# Altium footprint library Pcblibv2.PcbLib: 96 footprints (part 6 of 6)
Each footprint in its own frame and in the unit in brackets; x right, y up, seen from the top. Pads: shape width x height; smd on the part's side, far side on the other; paste and mask are expansions set on the pad; w line width, h text height; cw(c..) or ccw(c..) is an arc to the next point about the centre after c.
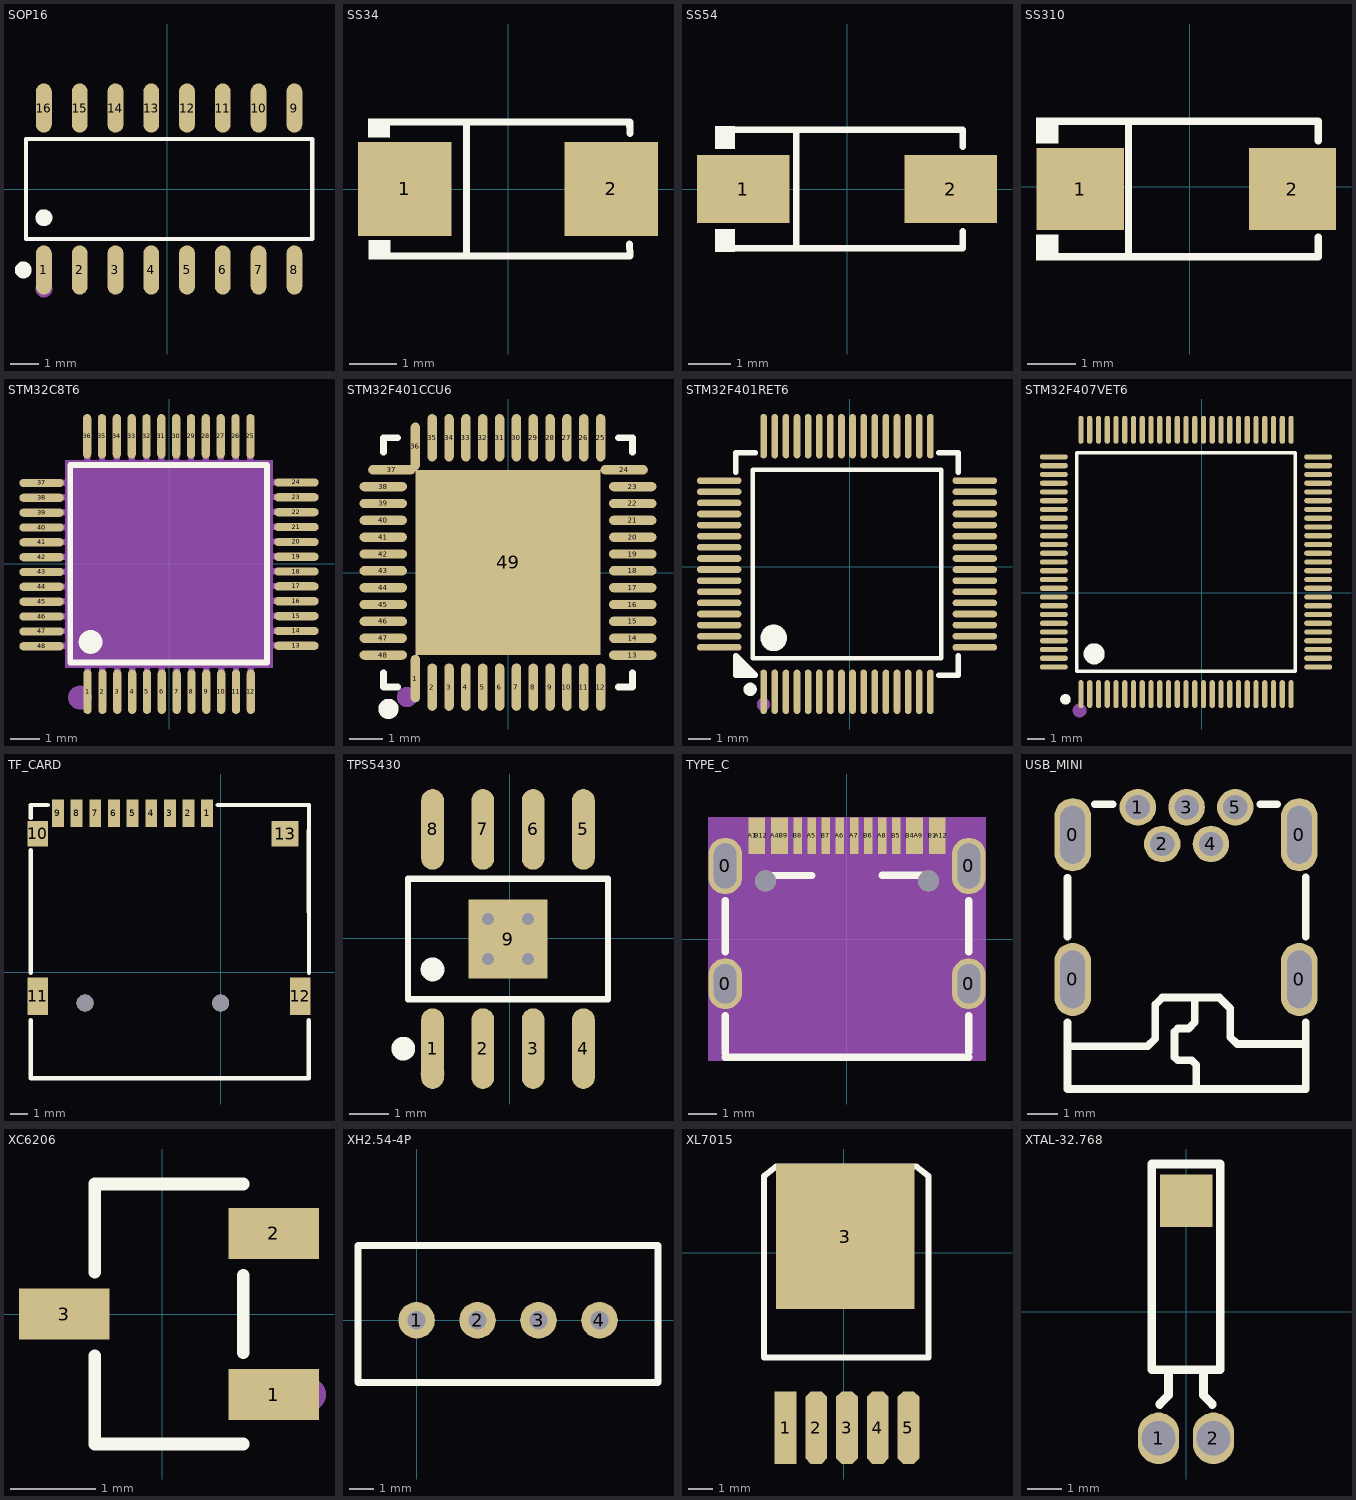
[diagram p5: the footprints below, top view; thin cyan lines are the x and y axes]

## SOP16 [mm]
pads (16):
  oval 0.56x1.745 smd: 1(-4.382,-2.873) 2(-3.112,-2.873) 3(-1.842,-2.873) 4(-0.572,-2.873) 5(0.698,-2.873) 6(1.968,-2.873) 7(3.238,-2.873) 8(4.508,-2.873) 9(4.508,2.873) 10(3.238,2.873) 11(1.968,2.873) 12(0.698,2.873) 13(-0.572,2.873) 14(-1.842,2.873) 15(-3.112,2.873) 16(-4.382,2.873)
Top Overlay:
  circle w0.3: c-5.115,-2.872 r0.15
  circle w0.3: c-4.382,-1.019 r0.15
  lines w0.152: -5.013,-1.771 5.139,-1.771 5.139,1.771 -5.013,1.771 -5.013,-1.771
Mechanical 15:
  circle w0.3: c-4.382,-3.55 r0.15

## SS34 [mm]
pads (2):
  rect 2x2 smd: 1(-2.2,0) 2(2.2,0)
Top Overlay:
  region: -2.512,-1.096 -2.513,-1.502 -2.973,-1.498 -2.969,-1.096
  region: -2.52,1.502 -2.521,1.096 -2.981,1.1 -2.977,1.502
  lines w0.152: -2.596,-1.426 2.596,-1.426 ; -2.596,1.426 2.596,1.426 2.603,1.187 ; -0.884,-1.426 -0.884,1.426 ; 2.593,-1.176 2.6,-1.415
Mechanical 15:
  region: 2.014,-0.675 2.014,0.675 1.811,0.675 1.811,-0.675
  region: 2.29,-0.09 2.29,0.113 1.48,0.113 1.48,-0.09
  region: -2.317,-0.101 -2.317,0.101 -1.507,0.101 -1.507,-0.101

## SS54 [mm]
pads (2):
  rect 2.185x1.593 smd: 1(-2.442,0) 2(2.442,0)
Top Overlay:
  region: -2.65,1.477 -2.65,0.949 -3.107,0.949 -3.107,1.477
  region: -2.65,-1.477 -2.65,-0.949 -3.107,-0.949 -3.107,-1.477
  lines w0.152: -2.726,-1.401 2.726,-1.401 2.726,-1 ; -2.726,1.401 2.726,1.401 2.726,1 ; -1.197,-1.401 -1.197,1.401
Mechanical 15:
  region: -2.451,-0.099 -2.451,0.099 -1.656,0.099 -1.656,-0.099
  region: 2.451,-0.099 2.451,0.099 1.656,0.099 1.656,-0.099
  region: 2.153,-0.663 2.153,0.663 1.954,0.663 1.954,-0.663

## SS310 [mm]
pads (2):
  rect 1.8x1.7 smd paste+0 mask+0.051: 1(-2.26,-0.047) 2(2.125,-0.047)
Top Overlay:
  region: -2.718,1.431 -2.718,0.902 -3.175,0.902 -3.175,1.431
  region: -2.718,-1.524 -2.718,-0.995 -3.175,-0.995 -3.175,-1.524
  lines w0.152: -2.794,-1.448 2.658,-1.448 2.658,-1.046 ; -2.794,1.355 2.658,1.355 2.658,0.953 ; -1.265,-1.448 -1.265,1.355
Mechanical 15:
  region: -2.519,-0.146 -2.519,0.053 -1.724,0.053 -1.724,-0.146
  region: 2.383,-0.146 2.383,0.053 1.588,0.053 1.588,-0.146
  region: 2.085,-0.709 2.085,0.616 1.887,0.616 1.887,-0.709

## STM32C8T6 [mil]
pads (48):
  oval 11.02x58.89 smd: 1(-108,-169.5) 2(-88.3,-169.5) 3(-68.6,-169.5) 4(-48.9,-169.5) 5(-29.2,-169.5) 6(-9.5,-169.5) 7(10.1,-169.5) 8(29.8,-169.5) 9(49.5,-169.5) 10(69.2,-169.5) 11(88.9,-169.5) 12(108.6,-169.5) 25(108,169.5) 26(88.3,169.5) 27(68.6,169.5) 28(48.9,169.5) 29(29.2,169.5) 30(9.5,169.5) 31(-10.1,169.5) 32(-29.8,169.5) 33(-49.5,169.5) 34(-69.2,169.5) 35(-88.9,169.5) 36(-108.6,169.5)
  oval 58.89x11.02 smd: 13(169,-108.5) 14(169,-88.8) 15(169,-69.1) 16(169,-49.4) 17(169,-29.7) 18(169,-10) 19(169,9.6) 20(169,29.3) 21(169,49) 22(169,68.7) 23(169,88.4) 24(169,108.1) 37(-169,107.5) 38(-169,87.8) 39(-169,68.1) 40(-169,48.4) 41(-169,28.7) 42(-169,9) 43(-169,-10.6) 44(-169,-30.3) 45(-169,-50) 46(-169,-69.7) 47(-169,-89.4) 48(-169,-109.1)
Top Overlay:
  lines w7.87: -114,131.5 130,131.5 130,-130.5 -131,-130.5 -131,131.5 -101,131.5
  lines w15.75: -104,-95.5 ccw(c-103.95,-103.37) -103.9,-95.5
Mechanical 4:
  region: -137.79,137.79 137.79,137.79 137.79,-137.8 -137.79,-137.8
Mechanical 5:
  drawing of 96 lines, arcs and shapes, not listed
Mechanical 15:
  circle w15.75: c-118.11,-177.17 r7.87
3D body "STM32F103C8T6--3DModel-STEP-56544.STEP": height 78.25, standoff 15.26, extent -173.16,-175.16 181.16,179.16

## STM32F401CCU6 [mm]
pads (49):
  oval 0.28x1.408 smd: 1(-2.751,-3.148) 2(-2.25,-3.402) 3(-1.75,-3.402) 4(-1.25,-3.402) 5(-0.749,-3.402) 6(-0.249,-3.402) 7(0.249,-3.402) 8(0.749,-3.402) 9(1.25,-3.402) 10(1.75,-3.402) 11(2.25,-3.402) 12(2.751,-3.402) 25(2.751,4.004) 26(2.25,4.004) 27(1.75,4.004) 28(1.25,4.004) 29(0.749,4.004) 30(0.249,4.004) 31(-0.249,4.004) 32(-0.749,4.004) 33(-1.25,4.004) 34(-1.75,4.004) 35(-2.25,4.004) 36(-2.751,3.75)
  oval 1.408x0.28 smd: 13(3.703,-2.45) 14(3.703,-1.949) 15(3.703,-1.449) 16(3.703,-0.949) 17(3.703,-0.448) 18(3.703,0.052) 19(3.703,0.55) 20(3.703,1.05) 21(3.703,1.551) 22(3.703,2.051) 23(3.703,2.551) 24(3.449,3.052) 37(-3.449,3.052) 38(-3.703,2.551) 39(-3.703,2.051) 40(-3.703,1.551) 41(-3.703,1.05) 42(-3.703,0.55) 43(-3.703,0.052) 44(-3.703,-0.448) 45(-3.703,-0.949) 46(-3.703,-1.449) 47(-3.703,-1.949) 48(-3.703,-2.45)
  rect 5.5x5.5 smd: 49(0,0.301)
Top Overlay:
  lines w0.2: -3.7,-2.974 -3.7,-3.399 -3.275,-3.399 ; -3.7,3.576 -3.7,4.001 -3.275,4.001 ; 3.275,-3.399 3.7,-3.399 3.7,-2.974 ; 3.275,4.001 3.7,4.001 3.7,3.576
  lines w0.3: -3.551,-3.9 ccw(c-3.55,-4.05) -3.549,-3.9
Mechanical 15:
  circle w0.3: c-3,-3.699 r0.15

## STM32F401RET6 [mm]
pads (64):
  oval 0.3x2 smd: 1(-3.877,-5.623) 2(-3.377,-5.623) 3(-2.877,-5.623) 4(-2.377,-5.623) 5(-1.877,-5.623) 6(-1.377,-5.623) 7(-0.877,-5.623) 8(-0.377,-5.623) 9(0.123,-5.623) 10(0.623,-5.623) 11(1.123,-5.623) 12(1.623,-5.623) 13(2.123,-5.623) 14(2.623,-5.623) 15(3.123,-5.623) 16(3.623,-5.623) 33(3.623,5.877) 34(3.123,5.877) 35(2.623,5.877) 36(2.123,5.877) 37(1.623,5.877) 38(1.123,5.877) 39(0.623,5.877) 40(0.123,5.877) 41(-0.377,5.877) 42(-0.877,5.877) 43(-1.377,5.877) 44(-1.877,5.877) 45(-2.377,5.877) 46(-2.877,5.877) 47(-3.377,5.877) 48(-3.877,5.877)
  oval 2x0.3 smd: 17(5.623,-3.623) 18(5.623,-3.123) 19(5.623,-2.623) 20(5.623,-2.123) 21(5.623,-1.623) 22(5.623,-1.123) 23(5.623,-0.623) 24(5.623,-0.123) 25(5.623,0.377) 26(5.623,0.877) 27(5.623,1.377) 28(5.623,1.877) 29(5.623,2.377) 30(5.623,2.877) 31(5.623,3.377) 32(5.623,3.877) 49(-5.877,3.877) 50(-5.877,3.377) 51(-5.877,2.877) 52(-5.877,2.377) 53(-5.877,1.877) 54(-5.877,1.377) 55(-5.877,0.877) 56(-5.877,0.377) 57(-5.877,-0.123) 58(-5.877,-0.623) 59(-5.877,-1.123) 60(-5.877,-1.623) 61(-5.877,-2.123) 62(-5.877,-2.623) 63(-5.877,-3.123) 64(-5.877,-3.623)
Top Overlay:
  region: -4.258,-4.873 -5.127,-4.004 -5.127,-4.873
  lines w0.2: -4.377,-4.123 4.123,-4.123 4.123,4.377 -4.377,4.377 -4.377,-4.123
  lines w0.254: -5.127,4.258 -5.127,5.127 -4.258,5.127 ; 4.004,-4.873 4.873,-4.873 4.873,-4.004 ; 4.004,5.127 4.873,5.127 4.873,4.258 ; -5.127,-4.004 -5.127,-4.873 -4.258,-4.873 -5.127,-4.004 ; -5.127,-4.004 -5.127,-4.004
  lines w0.3: -4.488,-5.363 ccw(c-4.487,-5.513) -4.486,-5.363
  lines w0.6: -3.426,-2.898 ccw(c-3.424,-3.198) -3.421,-2.898
Mechanical 15:
  circle w0.3: c-3.887,-6.193 r0.15

## STM32F407VET6 [mm]
pads (100):
  oval 0.3x1.6 smd: 1(-6.889,-5.782) 2(-6.389,-5.782) 3(-5.889,-5.782) 4(-5.389,-5.782) 5(-4.889,-5.782) 6(-4.389,-5.782) 7(-3.889,-5.782) 8(-3.389,-5.782) 9(-2.889,-5.782) 10(-2.389,-5.782) 11(-1.889,-5.782) 12(-1.389,-5.782) 13(-0.889,-5.782) 14(-0.389,-5.782) 15(0.111,-5.782) 16(0.611,-5.782) 17(1.111,-5.782) 18(1.611,-5.782) 19(2.111,-5.782) 20(2.611,-5.782) 21(3.111,-5.782) 22(3.611,-5.782) 23(4.111,-5.782) 24(4.611,-5.782) 25(5.111,-5.782) 51(5.111,9.318) 52(4.611,9.318) 53(4.111,9.318) 54(3.611,9.318) 55(3.111,9.318) 56(2.611,9.318) 57(2.111,9.318) 58(1.611,9.318) 59(1.111,9.318) 60(0.611,9.318) 61(0.111,9.318) 62(-0.389,9.318) 63(-0.889,9.318) 64(-1.389,9.318) 65(-1.889,9.318) 66(-2.389,9.318) 67(-2.889,9.318) 68(-3.389,9.318) 69(-3.889,9.318) 70(-4.389,9.318) 71(-4.889,9.318) 72(-5.389,9.318) 73(-5.889,9.318) 74(-6.389,9.318) 75(-6.889,9.318)
  oval 1.6x0.3 smd: 26(6.661,-4.232) 27(6.661,-3.732) 28(6.661,-3.232) 29(6.661,-2.732) 30(6.661,-2.232) 31(6.661,-1.732) 32(6.661,-1.232) 33(6.661,-0.732) 34(6.661,-0.232) 35(6.661,0.268) 36(6.661,0.768) 37(6.661,1.268) 38(6.661,1.768) 39(6.661,2.268) 40(6.661,2.768) 41(6.661,3.268) 42(6.661,3.768) 43(6.661,4.268) 44(6.661,4.768) 45(6.661,5.268) 46(6.661,5.768) 47(6.661,6.268) 48(6.661,6.768) 49(6.661,7.268) 50(6.661,7.768) 76(-8.439,7.768) 77(-8.439,7.268) 78(-8.439,6.768) 79(-8.439,6.268) 80(-8.439,5.768) 81(-8.439,5.268) 82(-8.439,4.768) 83(-8.439,4.268) 84(-8.439,3.768) 85(-8.439,3.268) 86(-8.439,2.768) 87(-8.439,2.268) 88(-8.439,1.768) 89(-8.439,1.268) 90(-8.439,0.768) 91(-8.439,0.268) 92(-8.439,-0.232) 93(-8.439,-0.732) 94(-8.439,-1.232) 95(-8.439,-1.732) 96(-8.439,-2.232) 97(-8.439,-2.732) 98(-8.439,-3.232) 99(-8.439,-3.732) 100(-8.439,-4.232)
Top Overlay:
  lines w0.2: -7.139,-4.482 5.361,-4.482 5.361,8.018 -7.139,8.018 -7.139,-4.482
  lines w0.3: -7.772,-5.928 ccw(c-7.771,-6.078) -7.77,-5.928
  lines w0.6: -6.139,-3.183 ccw(c-6.137,-3.483) -6.134,-3.183
Top Paste:
  drawing of 100 lines, arcs and shapes, not listed
Mechanical 15:
  circle w0.4: c-6.96,-6.716 r0.2

## TF_CARD [mm] "C266620"
pads (15):
  rect 0.7x1.6 smd: 1(-0.816,9.39) 2(-1.916,9.39) 3(-3.015,9.39) 4(-4.115,9.39) 5(-5.216,9.39) 6(-6.316,9.39) 7(-7.415,9.39) 8(-8.516,9.39) 9(-9.616,9.39)
  rect 1.2x1.5 smd: 10(-10.815,8.19)
  rect 1.2x2.2 smd: 11(-10.815,-1.41) 12(4.685,-1.41)
  rect 1.6x1.5 smd: 13(3.784,8.19)
  round 1 hole 1 unplated: ""(-8.015,-1.81) ""(-0.015,-1.81)
Top Overlay:
  lines w0.254: -11.23,-2.824 -11.23,-6.253 5.184,-6.253 5.184,-2.824 5.184,-2.91 ; -11.23,-0.032 -11.23,7.207 ; -11.23,9.112 -11.23,9.874 -10.214,9.874 ; -0.181,9.874 5.192,9.874 5.184,6.99 5.192,-0.032

## TPS5430 [mm]
pads (9):
  oval 0.574x2.038 smd: 1(-1.952,-2.785) 2(-0.682,-2.785) 3(0.588,-2.785) 4(1.858,-2.785) 5(1.858,2.753) 6(0.588,2.753) 7(-0.682,2.753) 8(-1.952,2.753)
  rect 2x2 smd: 9(-0.047,-0.016)
via 0.453,0.484 diameter 0.61 hole 0.305
via -0.547,0.484 diameter 0.61 hole 0.305
via -0.547,-0.516 diameter 0.61 hole 0.305
via 0.453,-0.516 diameter 0.61 hole 0.305
Top Overlay:
  circle w0.3: c-1.952,-0.785 r0.15
  circle w0.3: c-2.691,-2.785 r0.15
  lines w0.152: -2.573,-1.537 -2.573,1.505 2.479,1.505 2.479,-1.537 -2.573,-1.537
Mechanical 15:
  circle w0.3: c-1.952,-3.416 r0.15

## TYPE_C [mm]
pads (22):
  oval 1.2x1.8 hole 0.8 slot 1.4 at 90 deg: 0(-4.32,-1.589) 0(4.32,-1.589)
  oval 1.2x2 hole 0.8 slot 1.6 at 90 deg: 0(-4.32,2.591) 0(4.32,2.591)
  rect 0.3x1.3 smd: A1(-3.35,3.658) A4(-2.55,3.658) A5(-1.25,3.658) A6(-0.25,3.658) A7(0.25,3.658) A8(1.25,3.659) A9(2.55,3.658) A12(3.35,3.658) B1(3.05,3.658) B4(2.25,3.658) B5(1.75,3.658) B6(0.75,3.658) B7(-0.75,3.658) B8(-1.75,3.659) B9(-2.25,3.658) B12(-3.05,3.658)
  round 0.75 hole 0.75 unplated: ""(-2.89,2.061) ""(2.89,2.061)
Top Overlay:
  lines w0.254: -4.32,-4.192 4.32,-4.192 ; -4.32,-4.056 -4.32,-2.72 ; -4.32,-0.458 -4.32,1.36 ; -3,2.256 -1.25,2.256 ; 1.247,2.259 2.997,2.259 ; 4.32,-4.005 4.32,-2.72 ; 4.32,-0.458 4.32,1.36
Mechanical 4:
  circle w0.375: c2.89,2.061 r0.187
  circle w0.375: c-2.89,2.061 r0.187
  region: -4.92,4.319 4.92,4.319 4.92,-4.319 -4.92,-4.319
Mechanical 5:
  circle w0.127: c2.89,2.061 r0.375
  circle w0.127: c-2.89,2.061 r0.375
  region: -4.92,3.591 -3.72,3.591 -3.72,1.591 -4.92,1.591
  region: 3.72,3.591 4.92,3.591 4.92,1.591 3.72,1.591
  region: 3.72,-0.689 4.92,-0.689 4.92,-2.489 3.72,-2.489
  region: -4.92,-0.689 -3.72,-0.689 -3.72,-2.489 -4.92,-2.489
  region: 3.2,4.308 3.5,4.308 3.5,3.008 3.2,3.008
  region: 2.9,4.308 3.2,4.308 3.2,3.008 2.9,3.008
  region: 2.4,4.308 2.7,4.308 2.7,3.008 2.4,3.008
  region: 2.1,4.308 2.4,4.308 2.4,3.008 2.1,3.008
  region: 1.6,4.308 1.9,4.308 1.9,3.008 1.6,3.008
  region: 1.1,4.309 1.4,4.309 1.4,3.009 1.1,3.009
  region: 0.6,4.308 0.9,4.308 0.9,3.008 0.6,3.008
  region: 0.1,4.308 0.4,4.308 0.4,3.008 0.1,3.008
  region: -0.4,4.308 -0.1,4.308 -0.1,3.008 -0.4,3.008
  region: -0.9,4.308 -0.6,4.308 -0.6,3.008 -0.9,3.008
  region: -1.4,4.308 -1.1,4.308 -1.1,3.008 -1.4,3.008
  region: -1.9,4.309 -1.6,4.309 -1.6,3.009 -1.9,3.009
  region: -2.4,4.308 -2.1,4.308 -2.1,3.008 -2.4,3.008
  region: -2.7,4.308 -2.4,4.308 -2.4,3.008 -2.7,3.008
  region: -3.2,4.308 -2.9,4.308 -2.9,3.008 -3.2,3.008
  region: -3.5,4.308 -3.2,4.308 -3.2,3.008 -3.5,3.008
3D body "typec.STEP": height 3.13, standoff -1.07, extent -4.267,-3.896 4.673,4.004

## USB_MINI [mm]
pads (9):
  oval 1.2x2.4 hole 0.8 slot 1.9 at 90 deg: 0(22.291,-6.991) 0(22.291,-2.241) 0(29.731,-6.991) 0(29.731,-2.241)
  round 1.2 hole 0.8: 1(24.431,-1.339) 2(25.231,-2.543) 3(26.031,-1.339) 4(26.831,-2.543) 5(27.631,-1.339)
Top Overlay:
  lines w0.254: 22.118,-8.404 22.118,-10.587 29.943,-10.587 29.943,-8.394 ; 22.118,-5.578 22.118,-3.654 ; 22.157,-9.188 24.748,-9.188 25.002,-8.934 25.002,-7.816 25.231,-7.587 27.11,-7.587 27.466,-7.943 27.466,-8.883 27.694,-9.111 29.943,-9.111 ; 23.017,-1.237 23.606,-1.237 ; 26.297,-7.587 26.297,-8.324 26.297,-8.4 26.094,-8.603 25.739,-8.603 25.637,-8.705 25.637,-9.543 25.739,-9.645 26.196,-9.645 26.348,-9.797 26.348,-10.432 ; 28.456,-1.237 29.005,-1.237 ; 29.943,-5.587 29.943,-3.644
Mechanical 15:
  lines w0.003: 27.408,-5.638 27.408,-5.637

## XC6206 [mm]
pads (3):
  rect 1.07x0.6 smd: 1(1.314,-0.95) 2(1.314,0.95) 3(-1.156,0)
Top Overlay:
  lines w0.152: -0.797,-0.495 -0.797,-1.536 0.955,-1.536 ; -0.797,0.495 -0.797,1.536 0.955,1.536 ; 0.955,-0.455 0.955,0.455
Mechanical 15:
  circle w0.2: c1.73,-0.95 r0.1

## XH2.54-4P [mil]
pads (4):
  round 60 hole 30: 1(0,0) 2(100,0) 3(200,0) 4(300,0)
Top Overlay:
  lines w11.81: -96.1,-102 -96.1,122.41 396.03,122.41 396.03,-102 -96.1,-102

## XL7015 [mm]
pads (6):
  rect 0.9x3 smd: 1(-2.413,-7.239)
  oct 0.9x3 smd: 2(-1.143,-7.239) 3(0.127,-7.239) 4(1.397,-7.239) 5(2.667,-7.239)
  rect 5.715x6 smd: 3(0.056,0.659)
Top Overlay:
  lines w0.254: -2.796,3.55 -3.304,3.169 -3.304,-4.331 3.496,-4.331 3.496,3.169 2.988,3.55 ; -2.794,3.549 2.986,3.549

## XTAL-32.768 [mm] "长的"
pads (3):
  oval 1.2x1.5 hole 1: 1(-0.8,-3.688) 2(0.8,-3.688)
  rect 1.524x1.524 smd: ""(0.01,3.241)
Top Overlay:
  lines w0.254: -0.762,-2.708 -0.762,-2.688 -0.508,-2.435 -0.508,-2.307 -0.508,-1.799 ; 0.508,-1.799 0.508,-2.307 0.508,-2.434 0.762,-2.688 0.762,-2.708 ; -1,-1.688 -1,4.311 1,4.311 1,-1.688 -1,-1.688